# EAGLE library part CUBE-PLUG-CONN (library umich)
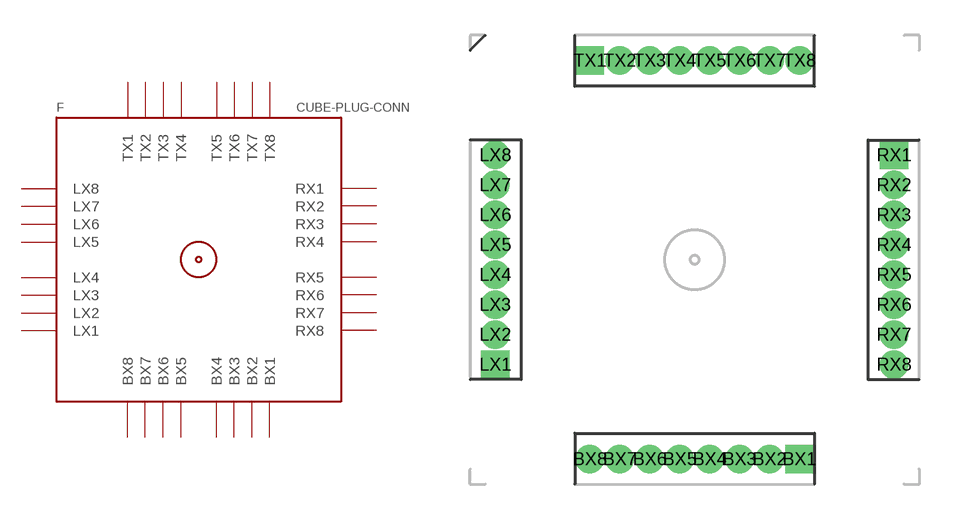
[diagram p8: symbol with the pads of CUBE-PLUG-CONN; footprint CUBE-PLUG-CONN]

Designator prefix F

## CUBE-PLUG-CONN  [CUBE-PLUG-CONN]
BX1  BX1
BX2  BX2
BX3  BX3
BX4  BX4
BX5  BX5
BX6  BX6
BX7  BX7
BX8  BX8
LX1  LX1
LX2  LX2
LX3  LX3
LX4  LX4
LX5  LX5
LX6  LX6
LX7  LX7
LX8  LX8
RX1  RX1
RX2  RX2
RX3  RX3
RX4  RX4
RX5  RX5
RX6  RX6
RX7  RX7
RX8  RX8
TX1  TX1
TX2  TX2
TX3  TX3
TX4  TX4
TX5  TX5
TX6  TX6
TX7  TX7
TX8  TX8

## Footprint CUBE-PLUG-CONN (pad centres in mm)
drill 0.7 pad 1.067 square: BX1 4.445,-8.458; LX1 -8.458,-4.445; RX1 8.458,4.445; TX1 -4.445,8.458
drill 0.7 pad 1.067: BX2 3.175,-8.458; BX3 1.905,-8.458; BX4 0.635,-8.458; BX5 -0.635,-8.458; BX6 -1.905,-8.458; BX7 -3.175,-8.458; BX8 -4.445,-8.458; LX2 -8.458,-3.175; LX3 -8.458,-1.905; LX4 -8.458,-0.635; LX5 -8.458,0.635; LX6 -8.458,1.905; LX7 -8.458,3.175; LX8 -8.458,4.445; RX2 8.458,3.175; RX3 8.458,1.905; RX4 8.458,0.635; RX5 8.458,-0.635; RX6 8.458,-1.905; RX7 8.458,-3.175; RX8 8.458,-4.445; TX2 -3.175,8.458; TX3 -1.905,8.458; TX4 -0.635,8.458; TX5 0.635,8.458; TX6 1.905,8.458; TX7 3.175,8.458; TX8 4.445,8.458